# Altium schematic symbol library 测试调试.SchLib: 4 symbols
Pins are listed as number, name and electrical type; pins without a type are passive.

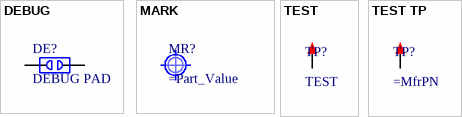
[diagram p0: symbols DEBUG to TEST TP]

## DEBUG
designator DE?, comment DEBUG PAD  (no BOM)
调试焊盘
pins: 1, 2

## MARK
designator MR?  (no BOM)

## TEST
designator TP?
测试点
pins: 1

## TEST TP
designator TP?
测试环
pins: 1